# Altium footprint library PCB - LEADED - SOT - DIODES TSOT25.PcbLib: 1 footprints
Each footprint in its own frame and in the unit in brackets; x right, y up, seen from the top. Pads: shape width x height; smd on the part's side, far side on the other; paste and mask are expansions set on the pad; w line width, h text height; cw(c..) or ccw(c..) is an arc to the next point about the centre after c.
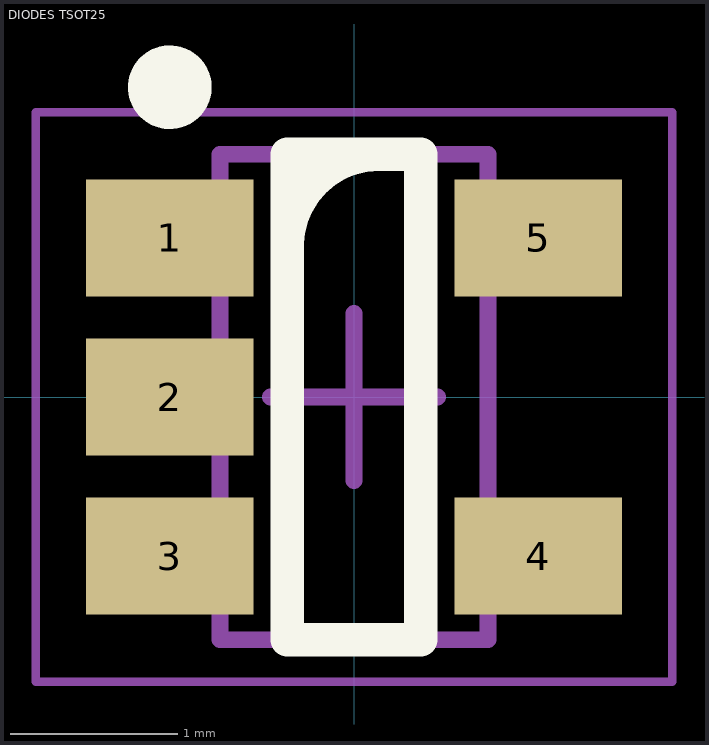
[diagram p0: the footprint, top view; thin cyan lines are the x and y axes]

## DIODES TSOT25 [mm] "TSOT25, 5-Leads, Body 2.90x2.80mm, Pitch 0.95mm, IPC Medium Density"
height 1.1
pads (5):
  rect 1x0.7 smd: 1(-1.1,0.95) 2(-1.1,0) 3(-1.1,-0.95) 4(1.1,-0.95) 5(1.1,0.95)
Top Overlay:
  circle w0.25: c-1.1,1.85 r0.125
  lines w0.2: -0.4,0.9 cw(c0.15,0.9) 0.15,1.45 0.4,1.45 ; 0.4,1.45 -0.4,1.45 -0.4,-1.45 0.4,-1.45 0.4,1.45
Top Assembly:
  lines w0.1: -0.8,-1.45 -0.8,1.45 0.8,1.45 0.8,-1.45 -0.8,-1.45
Top Component Center:
  lines w0.1: -0.5,0 0.5,0 ; 0,-0.5 0,0.5
Top Courtyard:
  lines w0.05: -1.9,-1.7 1.9,-1.7 1.9,1.7 -1.9,1.7 -1.9,-1.7
3D body "DIODES TSOT25.step": height 1.1, standoff 0, extent -1.4,-1.45 1.4,1.45